# EAGLE library part PWR_BOOST_TPS61032 (library SNWCT_EAGLE_LBR)
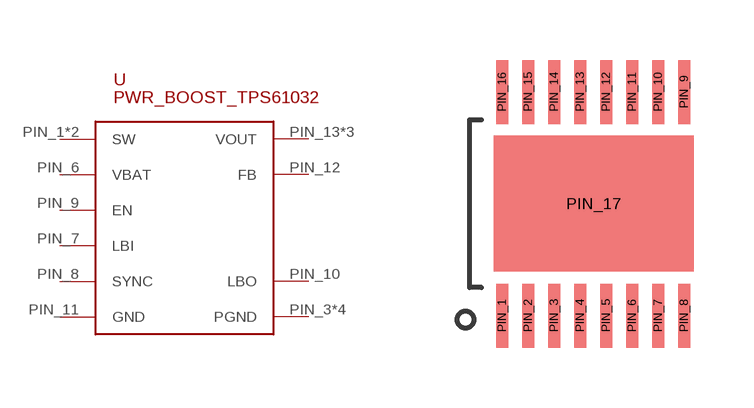
[diagram p6: symbol with the pads of PWP-16; footprint PWP-16]

Designator prefix -

## PWR_BOOST_TPS61032  [PWP-16]
PIN_1  SW
PIN_2  SW
PIN_3  PGND
PIN_4  PGND
PIN_5  PGND
PIN_6  VBAT
PIN_7  LBI
PIN_8  SYNC
PIN_9  EN
PIN_10  LBO
PIN_11  GND
PIN_12  FB
PIN_13  VOUT
PIN_14  VOUT
PIN_15  VOUT
PIN_17  PGND

## Footprint PWP-16 (pad centres in mm)
smd 0.3 x 1.6: PIN_1 -2.283,-2.8; PIN_2 -1.633,-2.8; PIN_3 -0.983,-2.8; PIN_4 -0.333,-2.8; PIN_5 0.317,-2.8; PIN_6 0.967,-2.8; PIN_7 1.617,-2.8; PIN_8 2.267,-2.8; PIN_9 2.267,2.8; PIN_10 1.617,2.8; PIN_11 0.967,2.8; PIN_12 0.317,2.8; PIN_13 -0.333,2.8; PIN_14 -0.983,2.8; PIN_15 -1.633,2.8; PIN_16 -2.283,2.8
smd 1.27 x 0.635: PIN_17 0,0